# EAGLE library part LTC3588 (library dword1511-pmic-dcdc)
Nanopower Energy Harvesting Power Supply
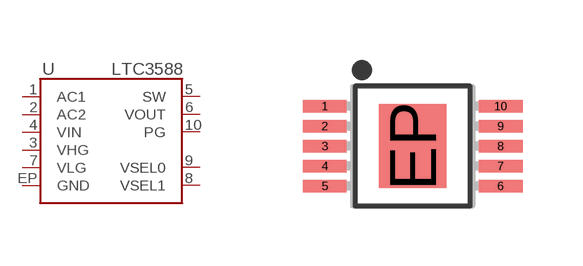
[diagram p29: symbol with the pads of MSOP-10-3X3-EP; footprint MSOP-10-3X3-EP]

Designator prefix U

## LTC3588EMSE-1, LTC3588EMSE-2, LTC3588IMSE-1, LTC3588IMSE-2  [MSOP-10-3X3-EP]
1  AC1  in
2  AC2  in
3  VHG  out
4  VIN  pwr
5  SW  out
6  VOUT  in
7  VLG  out
8  VSEL1  in
9  VSEL0  in
10  PG  out
EP  GND  pwr

## Footprint MSOP-10-3X3-EP (pad centres in mm)
smd 1.1 x 0.31: 1 -2.2,1; 2 -2.2,0.5; 3 -2.2,0; 4 -2.2,-0.5; 5 -2.2,-1; 6 2.2,-1; 7 2.2,-0.5; 8 2.2,0; 9 2.2,0.5; 10 2.2,1
smd 1.68 x 2.1: EP 0,0